# Altium footprint library Footprints2.PcbLib: 7 footprints
Each footprint in its own frame and in the unit in brackets; x right, y up, seen from the top. Pads: shape width x height; smd on the part's side, far side on the other; paste and mask are expansions set on the pad; w line width, h text height; cw(c..) or ccw(c..) is an arc to the next point about the centre after c.
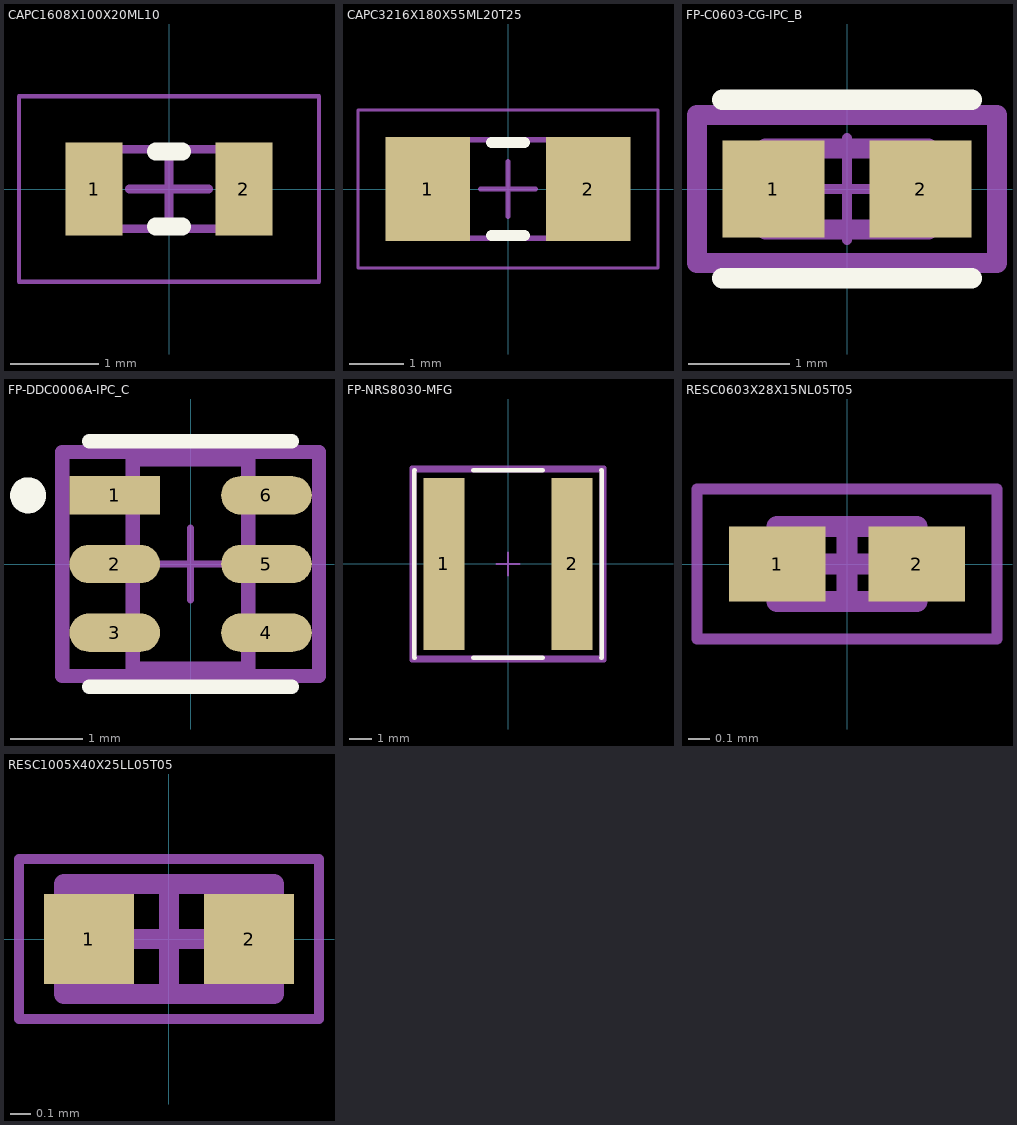
[diagram p0: the footprints below, top view; thin cyan lines are the x and y axes]

## CAPC1608X100X20ML10 [mm] "Chip Capacitor, 2-Leads, Body 1.70x0.90mm, IPC Low Density"
height 1
pads (2):
  rect 0.65x1.05 smd: 1(-0.85,0) 2(0.85,0)
Top Overlay:
  lines w0.2: -0.15,-0.425 0.15,-0.425 ; -0.15,0.425 0.15,0.425
Mechanical 13:
  lines w0.1: -0.85,-0.45 0.85,-0.45 0.85,0.45 -0.85,0.45 -0.85,-0.45
Mechanical 15:
  lines w0.05: -1.7,-1.05 1.7,-1.05 1.7,1.05 -1.7,1.05 -1.7,-1.05
  lines w0.1: -0.45,0 0.45,0 ; 0,-0.45 0,0.45
3D body: height 1, standoff 0, extent 0.65,-0.45 0.85,0.45
3D body: height 1, standoff 0, extent -0.85,-0.45 -0.65,0.45
3D body: height 1, standoff 0, extent -0.65,-0.45 0.65,0.45

## CAPC3216X180X55ML20T25 [mm] "Chip Capacitor, 2-Leads, Body 3.4x1.8mm, IPC Low Density"
height 1.8
pads (2):
  rect 1.55x1.9 smd: 1(-1.475,0) 2(1.475,0)
Top Overlay:
  lines w0.2: -0.3,-0.85 0.3,-0.85 ; -0.3,0.85 0.3,0.85
Mechanical 13:
  lines w0.1: -1.7,-0.9 1.7,-0.9 1.7,0.9 -1.7,0.9 -1.7,-0.9
Mechanical 15:
  lines w0.05: -2.75,-1.45 2.75,-1.45 2.75,1.45 -2.75,1.45 -2.75,-1.45
  lines w0.1: -0.5,0 0.5,0 ; 0,-0.5 0,0.5
3D body: height 1.8, standoff 0, extent 1.15,-0.9 1.7,0.9
3D body: height 1.8, standoff 0, extent -1.7,-0.9 -1.15,0.9
3D body: height 1.8, standoff 0, extent -1.15,-0.9 1.15,0.9

## FP-C0603-CG-IPC_B [mm]
height 8.54
pads (2):
  rect 1.007x0.958 smd paste+0 mask+0: 1(-0.726,0) 2(0.726,0)
Top Overlay:
  lines w0.2: -1.229,-0.879 1.229,-0.879 ; -1.229,0.879 1.229,0.879
Top 3D Body:
  lines w0.2: -0.8,-0.4 0.8,-0.4 0.8,0.4 -0.8,0.4 -0.8,-0.4
Top Courtyard:
  lines w0.2: -1.479,-0.729 1.479,-0.729 1.479,0.729 -1.479,0.729 -1.479,-0.729
Top Assembly:
  lines w0.2: -1.479,-0.729 1.479,-0.729 1.479,0.729 -1.479,0.729 -1.479,-0.729
  text ".Designator" at 0,0.188 h1
Top Component Center:
  lines w0.1: -0.5,0 0.5,0 ; 0,-0.5 0,0.5
3D body "Cap_Kemet_C0603C105Z8VACTU_eec.STEP": height 0.25, standoff 0, extent -1.479,-0.729 1.479,0.729

## FP-DDC0006A-IPC_C [mm]
height 8.54
pads (6):
  rect 1.254x0.532 smd paste+0 mask+0: 1(-1.05,0.95)
  rrect100% 1.254x0.532 smd paste+0 mask+0: 2(-1.05,0) 3(-1.05,-0.95) 4(1.05,-0.95) 5(1.05,0) 6(1.05,0.95)
Top Overlay:
  circle w0.25: c-2.25,0.95 r0.125
  lines w0.2: -1.4,-1.7 1.4,-1.7 ; -1.4,1.7 1.4,1.7
Top 3D Body:
  lines w0.2: -0.8,-1.45 -0.8,1.45 0.8,1.45 0.8,-1.45 -0.8,-1.45
Top Courtyard:
  lines w0.2: -1.777,-1.55 -1.777,1.55 1.777,1.55 1.777,-1.55 -1.777,-1.55
Top Assembly:
  lines w0.2: -1.777,-1.55 -1.777,1.55 1.777,1.55 1.777,-1.55 -1.777,-1.55
  text ".Designator" at 0,0.188 h1
Top Component Center:
  lines w0.1: -0.5,0 0.5,0 ; 0,-0.5 0,0.5
3D body "IC_Texas_Instruments_TPS562201DDCT_eec.STEP": height 0.25, standoff 0, extent -1.777,-1.55 1.777,1.55

## FP-NRS8030-MFG [mm]
height 8.54
pads (2):
  rect 1.8x7.5 smd paste+0 mask+0: 1(-2.8,0) 2(2.8,0)
Top Overlay:
  lines w0.2: -4.075,-4.1 -4.1,-4.1 -4.1,4.1 -4.075,4.1 ; -1.525,-4.1 1.525,-4.1 ; -1.525,4.1 1.525,4.1 ; 4.075,-4.1 4.1,-4.1 4.1,4.1 4.075,4.1
Top 3D Body:
  lines w0.2: -4.1,-4.1 -4.1,4.1 4.1,4.1 4.1,-4.1 -4.1,-4.1
Top Courtyard:
  lines w0.2: -4.2,-4.2 -4.2,4.2 4.2,4.2 4.2,-4.2 -4.2,-4.2
Top Assembly:
  lines w0.2: -4.2,-4.2 -4.2,4.2 4.2,4.2 4.2,-4.2 -4.2,-4.2
  text ".Designator" at 0,-0.012 h1
Top Component Center:
  lines w0.1: -0.5,0 0.5,0 ; 0,-0.5 0,0.5
3D body "Ind_Taiyo_Yuden_NRS8030T1R0NJGJ_eec.STEP": height 0.25, standoff 0, extent -4.2,-4.2 4.2,4.2

## RESC0603X28X15NL05T05 [mm] "Chip Resistor, 2-Leads, Body 0.60x0.30mm, IPC Medium Density"
height 0.28
pads (2):
  rect 0.45x0.35 smd: 1(-0.325,0) 2(0.325,0)
Mechanical 13:
  lines w0.1: -0.325,-0.175 -0.325,0.175 0.325,0.175 0.325,-0.175 -0.325,-0.175
Mechanical 15:
  lines w0.05: -0.7,-0.35 -0.7,0.35 0.7,0.35 0.7,-0.35 -0.7,-0.35
  lines w0.1: -0.175,0 0.175,0 ; 0,-0.175 0,0.175
3D body: height 0.28, standoff 0, extent -0.175,-0.175 0.175,0.175
3D body: height 0.28, standoff 0, extent -0.325,-0.175 -0.175,0.175
3D body: height 0.28, standoff 0, extent 0.175,-0.175 0.325,0.175

## RESC1005X40X25LL05T05 [mm] "Chip Resistor, 2-Leads, Body 1.05x0.55mm, IPC High Density"
height 0.4
pads (2):
  rect 0.45x0.45 smd: 1(-0.4,0) 2(0.4,0)
Mechanical 13:
  lines w0.1: -0.525,-0.275 0.525,-0.275 0.525,0.275 -0.525,0.275 -0.525,-0.275
Mechanical 15:
  lines w0.05: -0.75,-0.4 0.75,-0.4 0.75,0.4 -0.75,0.4 -0.75,-0.4
  lines w0.1: -0.275,0 0.275,0 ; 0,-0.275 0,0.275
3D body "RESC1005X04L.step": height 0.4, standoff 0, extent -0.525,-0.275 0.525,0.275